# Altium schematic symbol library stm32底盘_PCB_V1.0.SchLib: 20 symbols
Pins are listed as number, name and electrical type; pins without a type are passive.

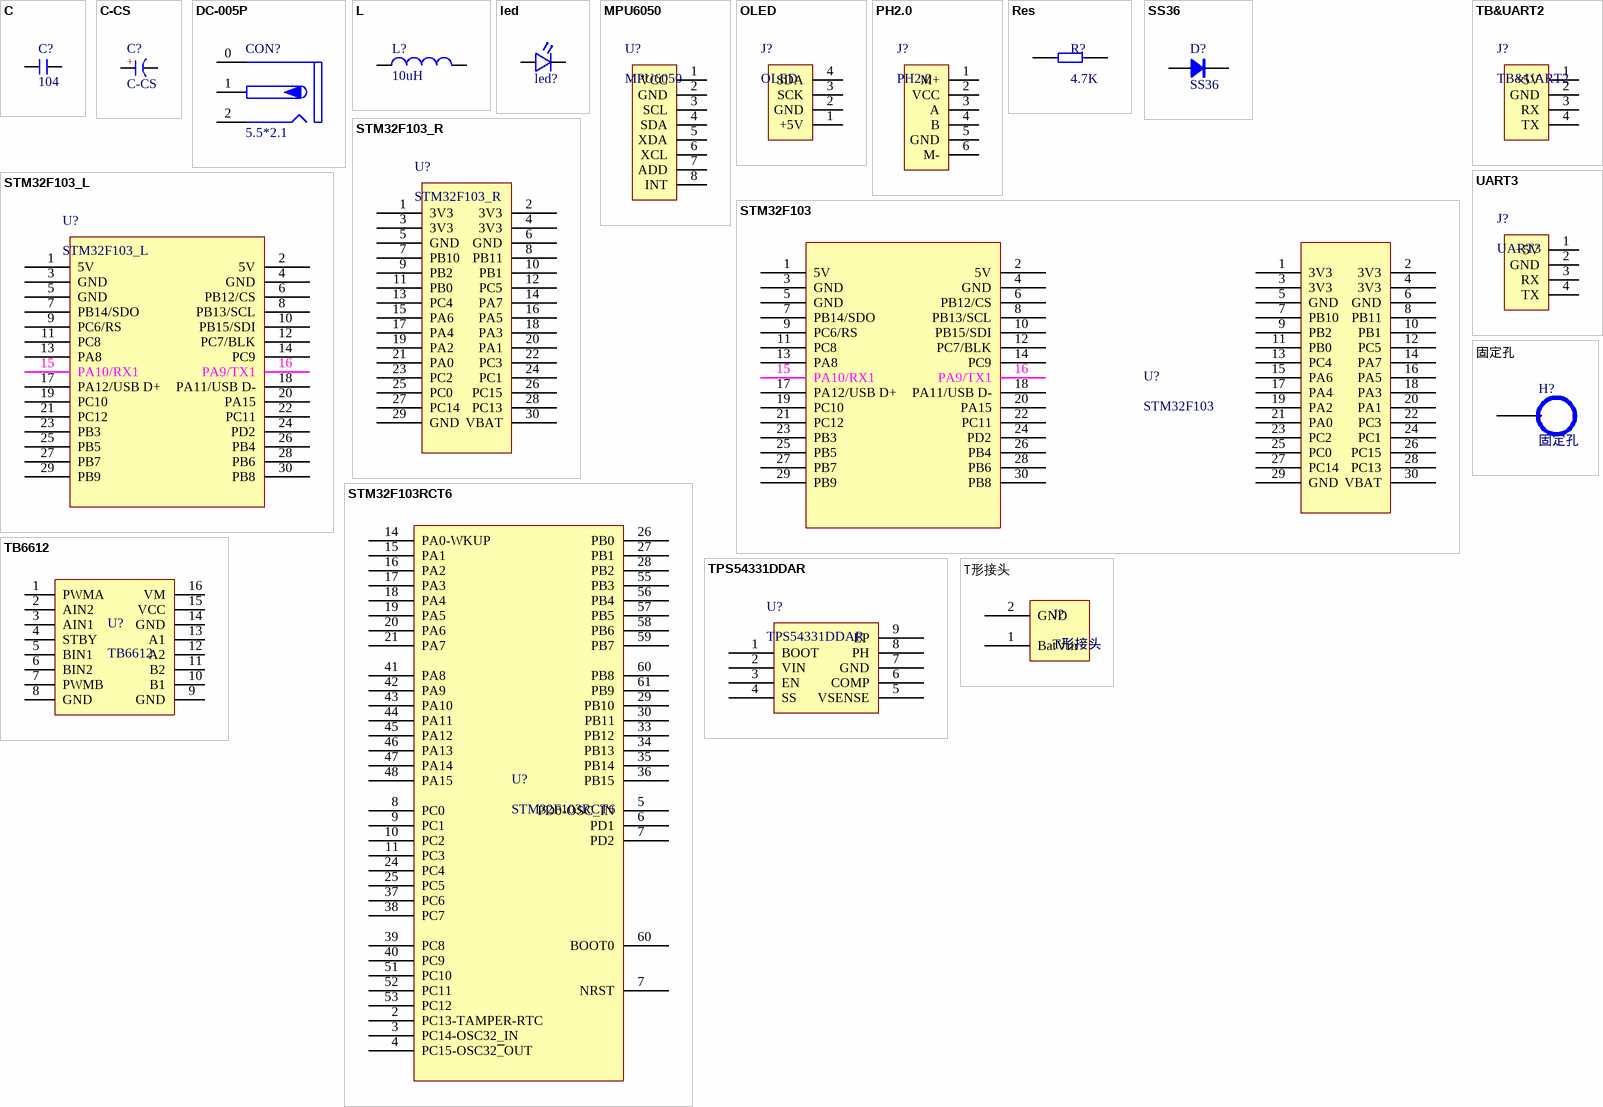
[diagram p0: symbols C to 固定孔]

## C
designator C?, comment 104
无极性贴片电容; 材质: X7R; BOM名称: 无极性贴片电容
footprint C 0201_L (无极性贴片电容)
footprint C 0402_L (无极性贴片电容)
footprint C 0603_L (无极性贴片电容)
footprint C 0805_L (无极性贴片电容)
footprint C 1206_L (无极性贴片电容)
footprint C 1210_L (无极性贴片电容)
footprint C 1808_L (无极性贴片电容)
footprint C 1812_L (无极性贴片电容)
footprint C 1825_L (无极性贴片电容)
footprint C 2225_L (无极性贴片电容)
footprint C 0201_M (无极性贴片电容)
footprint C 0402_M (无极性贴片电容)
footprint C 0603_M (无极性贴片电容)
footprint C 0805_M (无极性贴片电容)
footprint C 1206_M (无极性贴片电容)
footprint C 1210_M (无极性贴片电容)
footprint C 1808_M (无极性贴片电容)
footprint C 1812_M (无极性贴片电容)
footprint C 1825_M (无极性贴片电容)
footprint C 2225_M (无极性贴片电容)
pins: 1, 2

## C-CS
designator C?
直插固态电容; BOM名称: 直插固态电容
footprint CS 2.0*5*8 - C (脚距2mm , 直径5mm , 高8mm)
footprint CS 2.0*5*8 - R (脚距2mm , 直径5mm , 高8mm)
footprint CS 2.0*5*8 - V (脚距2mm , 直径5mm , 高8mm)
footprint CS 2.5*6.3*7 - C (脚距2.5mm , 直径6.3mm , 高7mm)
footprint CS 2.5*6.3*7 - R (脚距2.5mm , 直径6.3mm , 高7mm)
footprint CS 2.5*6.3*7 - V (脚距2.5mm , 直径6.3mm , 高7mm)
footprint CS 2.5*6.3*11 - C (脚距2.5mm , 直径6.3mm , 高11mm)
footprint CS 2.5*6.3*11 - R (脚距2.5mm , 直径6.3mm , 高11mm)
footprint CS 2.5*6.3*11 - V (脚距2.5mm , 直径6.3mm , 高11mm)
footprint CS 3.5*8*8 - C (脚距3.5mm , 直径8mm , 高8mm)
footprint CS 3.5*8*8 - R (脚距3.5mm , 直径8mm , 高8mm)
footprint CS 3.5*8*8 - V (脚距3.5mm , 直径8mm , 高8mm)
footprint CS 3.5*8*11.5 - C (脚距3.5mm , 直径8mm , 高11.5mm)
footprint CS 3.5*8*11.5 - R (脚距3.5mm , 直径8mm , 高11.5mm)
footprint CS 3.5*8*11.5 - V (脚距3.5mm , 直径8mm , 高11.5mm)
footprint CS 5.0*10*13 - C (脚距5mm , 直径10mm , 高13mm)
footprint CS 5.0*10*13 - R (脚距5mm , 直径10mm , 高13mm)
footprint CS 5.0*10*13 - V (脚距5mm , 直径10mm , 高13mm)
pins: 1 A, 2 K
text: +

## DC-005P
designator CON?, comment 5.5*2.1
带屏蔽DC电源接口; BOM名称: 带屏蔽DC电源接口
pins: 0 (power), 1 (power), 2 (power)

## L
designator L?, comment 10uH
小功率贴片电感; BOM名称: 小功率贴片电感
footprint L 0402_L (小功率贴片电感)
footprint L 0603_L (小功率贴片电感)
footprint L 0805_L (小功率贴片电感)
footprint L 1206_L (小功率贴片电感)
footprint L 1210_L (小功率贴片电感)
footprint L 1806_L (小功率贴片电感)
footprint L 1812_L (小功率贴片电感)
footprint L 0402_M (小功率贴片电感)
footprint L 0603_M (小功率贴片电感)
footprint L 0805_M (小功率贴片电感)
footprint L 1206_M (小功率贴片电感)
footprint L 1210_M (小功率贴片电感)
footprint L 1806_M (小功率贴片电感)
footprint L 1812_M (小功率贴片电感)
pins: 1, 2

## led
designator led?  (value not drawn)
footprint LED 0805G (绿色0805LED)
pins: 1, 2

## MPU6050
designator U?
pins: 1 VCC, 2 GND, 3 SCL, 4 SDA, 5 XDA, 6 XCL, 7 ADD, 8 INT

## OLED
designator J?
IIC
pins: 1 +5V, 2 GND, 3 SCK, 4 SDA

## PH2.0
designator J?
6脚接口
footprint PH2.0-LI-6P (长：13.9mm，宽：4.7mm，高：6mm)
pins: 1 M+, 2 VCC, 3 A, 4 B, 5 GND, 6 M-

## Res
designator R?, comment 4.7K
电阻
footprint R 0805_L (1/8W贴片电阻)
footprint 25K,20MM
pins: 1, 2

## SS36
designator D?
肖特基二极管; 属性: 40V/3A; BOM名称: 肖特基二极管
footprint SMC (7.1x5.9*2.3mm（长宽高，不包括引脚）)
footprint SMB (4.7*3.9*2.2mm(长宽高，不包括引脚）)
pins: 1 A, 2 K

## STM32F103
designator U?
pins: 1 5V, 1 3V3, 2 5V, 2 3V3, 3 GND, 3 3V3, 4 GND, 4 3V3, 5 GND, 5 GND, 6 PB12/CS, 6 GND, 7 PB14/SDO, 7 PB10, 8 PB13/SCL, 8 PB11, 9 PC6/RS, 9 PB2, 10 PB15/SDI, 10 PB1, 11 PC8, 11 PB0, 12 PC7/BLK, 12 PC5, 13 PA8, 13 PC4, 14 PC9, 14 PA7, 15 PA10/RX1, 15 PA6, 16 PA9/TX1, 16 PA5, 17 PA12/USB D+, 17 PA4, 18 PA11/USB D-, 18 PA3, 19 PC10, 19 PA2, 20 PA15, 20 PA1, 21 PC12, 21 PA0, 22 PC11, 22 PC3, 23 PB3, 23 PC2, 24 PD2, 24 PC1, 25 PB5, 25 PC0, 26 PB4, 26 PC15, 27 PB7, 27 PC14, 28 PB6, 28 PC13, 29 PB9, 29 GND, 30 PB8, 30 VBAT

## STM32F103_L
designator U?
32位STM单片机
pins: 1 5V, 2 5V, 3 GND, 4 GND, 5 GND, 6 PB12/CS, 7 PB14/SDO, 8 PB13/SCL, 9 PC6/RS, 10 PB15/SDI, 11 PC8, 12 PC7/BLK, 13 PA8, 14 PC9, 15 PA10/RX1, 16 PA9/TX1, 17 PA12/USB D+, 18 PA11/USB D-, 19 PC10, 20 PA15, 21 PC12, 22 PC11, 23 PB3, 24 PD2, 25 PB5, 26 PB4, 27 PB7, 28 PB6, 29 PB9, 30 PB8

## STM32F103_R
designator U?
32位STM单片机
pins: 1 3V3, 2 3V3, 3 3V3, 4 3V3, 5 GND, 6 GND, 7 PB10, 8 PB11, 9 PB2, 10 PB1, 11 PB0, 12 PC5, 13 PC4, 14 PA7, 15 PA6, 16 PA5, 17 PA4, 18 PA3, 19 PA2, 20 PA1, 21 PA0, 22 PC3, 23 PC2, 24 PC1, 25 PC0, 26 PC15, 27 PC14, 28 PC13, 29 GND, 30 VBAT

## STM32F103RCT6
designator U?
32位STM单片机
pins: 2 PC13-TAMPER-RTC, 3 PC14-OSC32_IN, 4 PC15-OSC32~{_}OUT, 5 PD0-OSC_IN, 6 PD1, 7 PD2, 7 NRST, 8 PC0, 9 PC1, 10 PC2, 11 PC3, 14 PA0-WKUP, 15 PA1, 16 PA2, 17 PA3, 18 PA4, 19 PA5, 20 PA6, 21 PA7, 24 PC4, 25 PC5, 26 PB0, 27 PB1, 28 PB2, 29 PB10, 30 PB11, 33 PB12, 34 PB13, 35 PB14, 36 PB15, 37 PC6, 38 PC7, 39 PC8, 40 PC9, 41 PA8, 42 PA9, 43 PA10, 44 PA11, 45 PA12, 46 PA13, 47 PA14, 48 PA15, 51 PC10, 52 PC11, 53 PC12, 55 PB3, 56 PB4, 57 PB5, 58 PB6, 59 PB7, 60 PB8, 60 BOOT0, 61 PB9

## TB6612
designator U?
pins: 1 PWMA, 2 AIN2, 3 AIN1, 4 STBY, 5 BIN1, 6 BIN2, 7 PWMB, 8 GND, 9 GND, 10 B1, 11 B2, 12 A2, 13 A1, 14 GND, 15 VCC, 16 VM

## TB&UART2
designator J?
串口通信
pins: 1 +5V, 2 GND, 3 RX, 4 TX

## TPS54331DDAR
designator U?
压降芯片
pins: 1 BOOT, 2 VIN, 3 EN, 4 SS, 5 VSENSE, 6 COMP, 7 GND, 8 PH, 9 EP

## T形接头
designator J?
航模电池接口
pins: 1 BatVin, 2 GND

## UART3
designator J?
串口通信
pins: 1 +5V, 2 GND, 3 RX, 4 TX

## 固定孔
designator H?
footprint 铜柱孔
pins: 11